# EAGLE library part G125-MH11605L1P (library G125-MH11605L1P)
Gecko Latch: 8+8 Pos Plug DIL Right-Angle 3.2mm THT Connector Latch THT Hold-Down Source: Datasheet <https://content.harwin.com/m/844b40397efd33c6/original/DRG-00172-Technical-Drawing-Datasheet-G125-MHXXX05L1P-pdf.pdf>
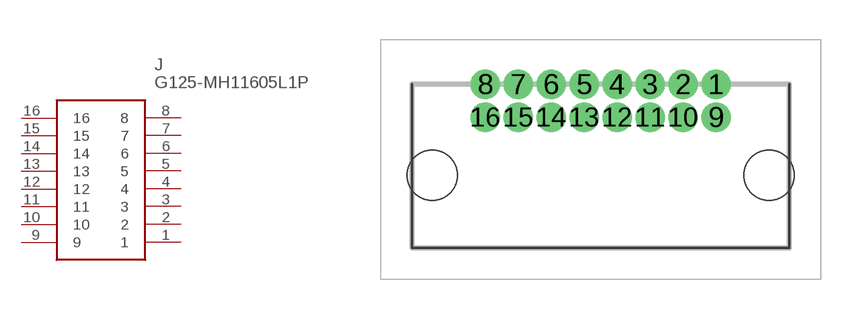
[diagram p0: symbol with the pads of G125-MH11605L1P; footprint G125-MH11605L1P]

Designator prefix J

## G125-MH11605L1P (Description: Gecko Latch: 8+8 Pos Plug DIL Right-Angle 3.2mm THT Connector Latch THT Hold-Down; Height: 5.55mm; Manufacturer_Name: Harwin; Manufacturer_Part_Number: G125-MH11605L1P; Mouser_Part_Number: 855-G125-MH11605L1P; Mouser_Price-Stock: https://www.mouser.co.uk/ProductDetail/Harwin/G125-MH11605L1P?qs=kxSDgj%2F7uumIzP69oO%252BoMQ%3D%3D)  [G125-MH11605L1P]
1  1
2  2
3  3
4  4
5  5
6  6
7  7
8  8
9  9
10  10
11  11
12  12
13  13
14  14
15  15
16  16

## Footprint G125-MH11605L1P (pad centres in mm)
G125-MH11605L1P
drill 0.6 pad 1.1: 1 0,0; 2 -1.25,0; 3 -2.5,0; 4 -3.75,0; 5 -5,0; 6 -6.25,0; 7 -7.5,0; 8 -8.75,0; 9 0,-1.25; 10 -1.25,-1.25; 11 -2.5,-1.25; 12 -3.75,-1.25; 13 -5,-1.25; 14 -6.25,-1.25; 15 -7.5,-1.25; 16 -8.75,-1.25
hole 1.9 at 2,-3.45
hole 1.9 at -10.75,-3.45